# EAGLE library part A6S-4101 (library farnell-parts)
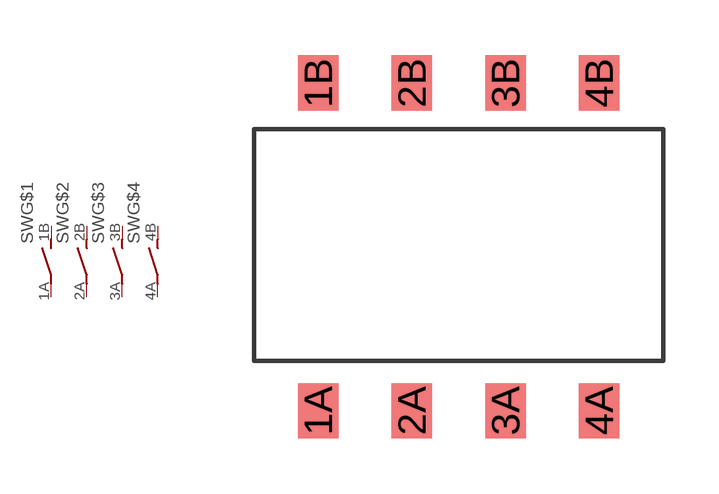
[diagram p5: symbol with the pads of A6S-4; footprint A6S-4]

Designator prefix SW; gates G$1=S+V G$2=S+V G$3=S+V G$4=S+V

## A6S-4101  [A6S-4]
1A  G$1:P  pas
1B  G$1:S  pas
2A  G$2:P  pas
2B  G$2:S  pas
3A  G$3:P  pas
3B  G$3:S  pas
4A  G$4:P  pas
4B  G$4:S  pas

## Footprint A6S-4 (pad centres in mm)
smd 1.1 x 1.5: 1A -3.81,-4.45; 1B -3.81,4.45; 2A -1.27,-4.45; 2B -1.27,4.45; 3A 1.27,-4.45; 3B 1.27,4.45; 4A 3.81,-4.45; 4B 3.81,4.45